# EAGLE library part 750342756 (library wurth_electronics_midcom_inc_v2-1)
Package Style: EFD20 Mounting: SMD Pins: 10 pins Bobbin: 070-4290 Best pinouts for production vary per application. Please contact Wurth Electronics Midcom, Inc. for assistance with your custom design. Website: Wurth Electronics Midcom <http://www.we-online.com/midcom> Contact us Wurth Electronics Midcom, Inc. 121 Airport Dr. Watertown, SD 57201 Phone: (605) 886-4385 Fax: (605) 886-4486 E-Mail: midcom@we-online.com
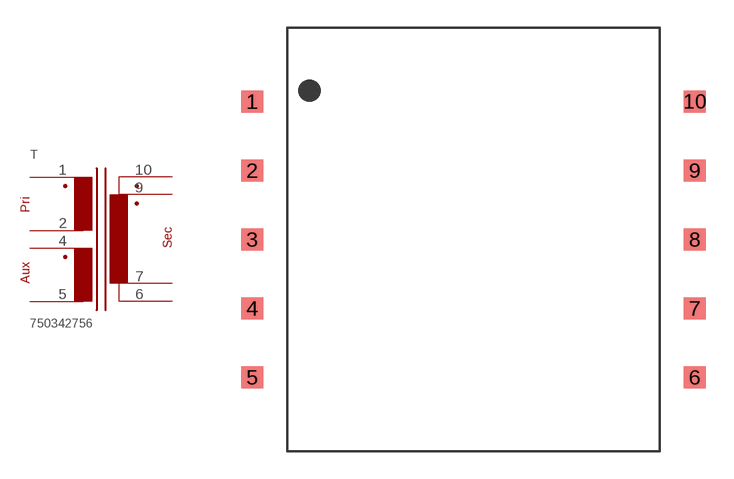
[diagram p78: symbol with the pads of EFD20_SMD_H_10PIN_(4290); footprint EFD20_SMD_H_10PIN_(4290)]

Designator prefix T

## 750342756  [EFD20_SMD_H_10PIN_(4290)]
1  1  pas
2  2  pas
4  4  pas
5  5  pas
6  6  pas
7  7  pas
9  9  pas
10  10  pas

## Footprint EFD20_SMD_H_10PIN_(4290) (pad centres in mm)
Package Style: EFD20 Mounting: SMD Pins: 10 Bobbin: 070-4290
smd 1.219 x 1.194: 1 -12.052,7.518; 2 -12.052,3.759; 3 -12.052,0; 4 -12.052,-3.759; 5 -12.052,-7.518; 6 12.052,-7.518; 7 12.052,-3.759; 8 12.052,0; 9 12.052,3.759; 10 12.052,7.518